# Altium schematic symbol library TXB0104QPWRQ1.SchLib: 1 symbol
Pins are listed as number, name and electrical type; pins without a type are passive.

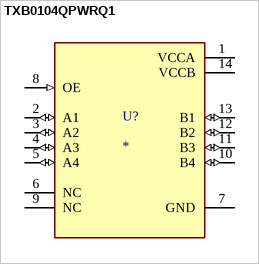
[diagram p0: symbol TXB0104QPWRQ1]

## TXB0104QPWRQ1
designator U?
MP: TXB0104QPWRQ1; MF: {'manufacturer': u'Texas Instruments'}; Value: *; Availability: Unavailable; Package: None; Price: None
footprint SOP65P640X120-14N
pins: 1 VCCA (power), 2 A1 (io), 3 A2 (io), 4 A3 (io), 5 A4 (io), 6 NC, 7 GND (power), 8 OE (in), 9 NC, 10 B4 (io), 11 B3 (io), 12 B2 (io), 13 B1 (io), 14 VCCB (power)